# Altium integrated library Resistor_4K7_0805.IntLib: 1 symbol
Pins are listed as number, name and electrical type; pins without a type are passive.

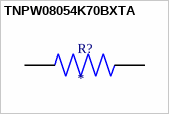
[diagram p0: symbol TNPW08054K70BXTA]

## TNPW08054K70BXTA
designator R?
MP: TNPW08054K70BXTA; Package: None; Price: None; Value: *; Availability: Unavailable
footprint RESC2012X55N
pins: 1, 2